# Altium schematic symbol library SnapEDAsch.SchLib: 1 symbol
Pins are listed as number, name and electrical type; pins without a type are passive.

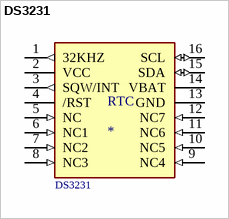
[diagram p0: symbol DS3231]

## DS3231
designator RTC
MP: DS3231; MF: Maxim Integrated; Value: *; Package: SOIC-16 Maxim Integrated; Price: None; SnapEDA_Link: https://www.snapeda.com/parts/DS3231/Maxim%20Integrated/view-part/553791/?ref=snap; Availability: Unavailable
footprint SO16W
pins: 1 32KHZ (out), 2 VCC (power), 3 SQW/INT (out), 4 /RST, 5 NC (in), 6 NC1 (in), 7 NC2 (in), 8 NC3 (in), 9 NC4 (in), 10 NC5 (in), 11 NC6 (in), 12 NC7 (in), 13 GND (power), 14 VBAT (power), 15 SDA (io), 16 SCL (io)